# Altium schematic symbol library Symbol.SchLib: 41 symbols
Pins are listed as number, name and electrical type; pins without a type are passive.

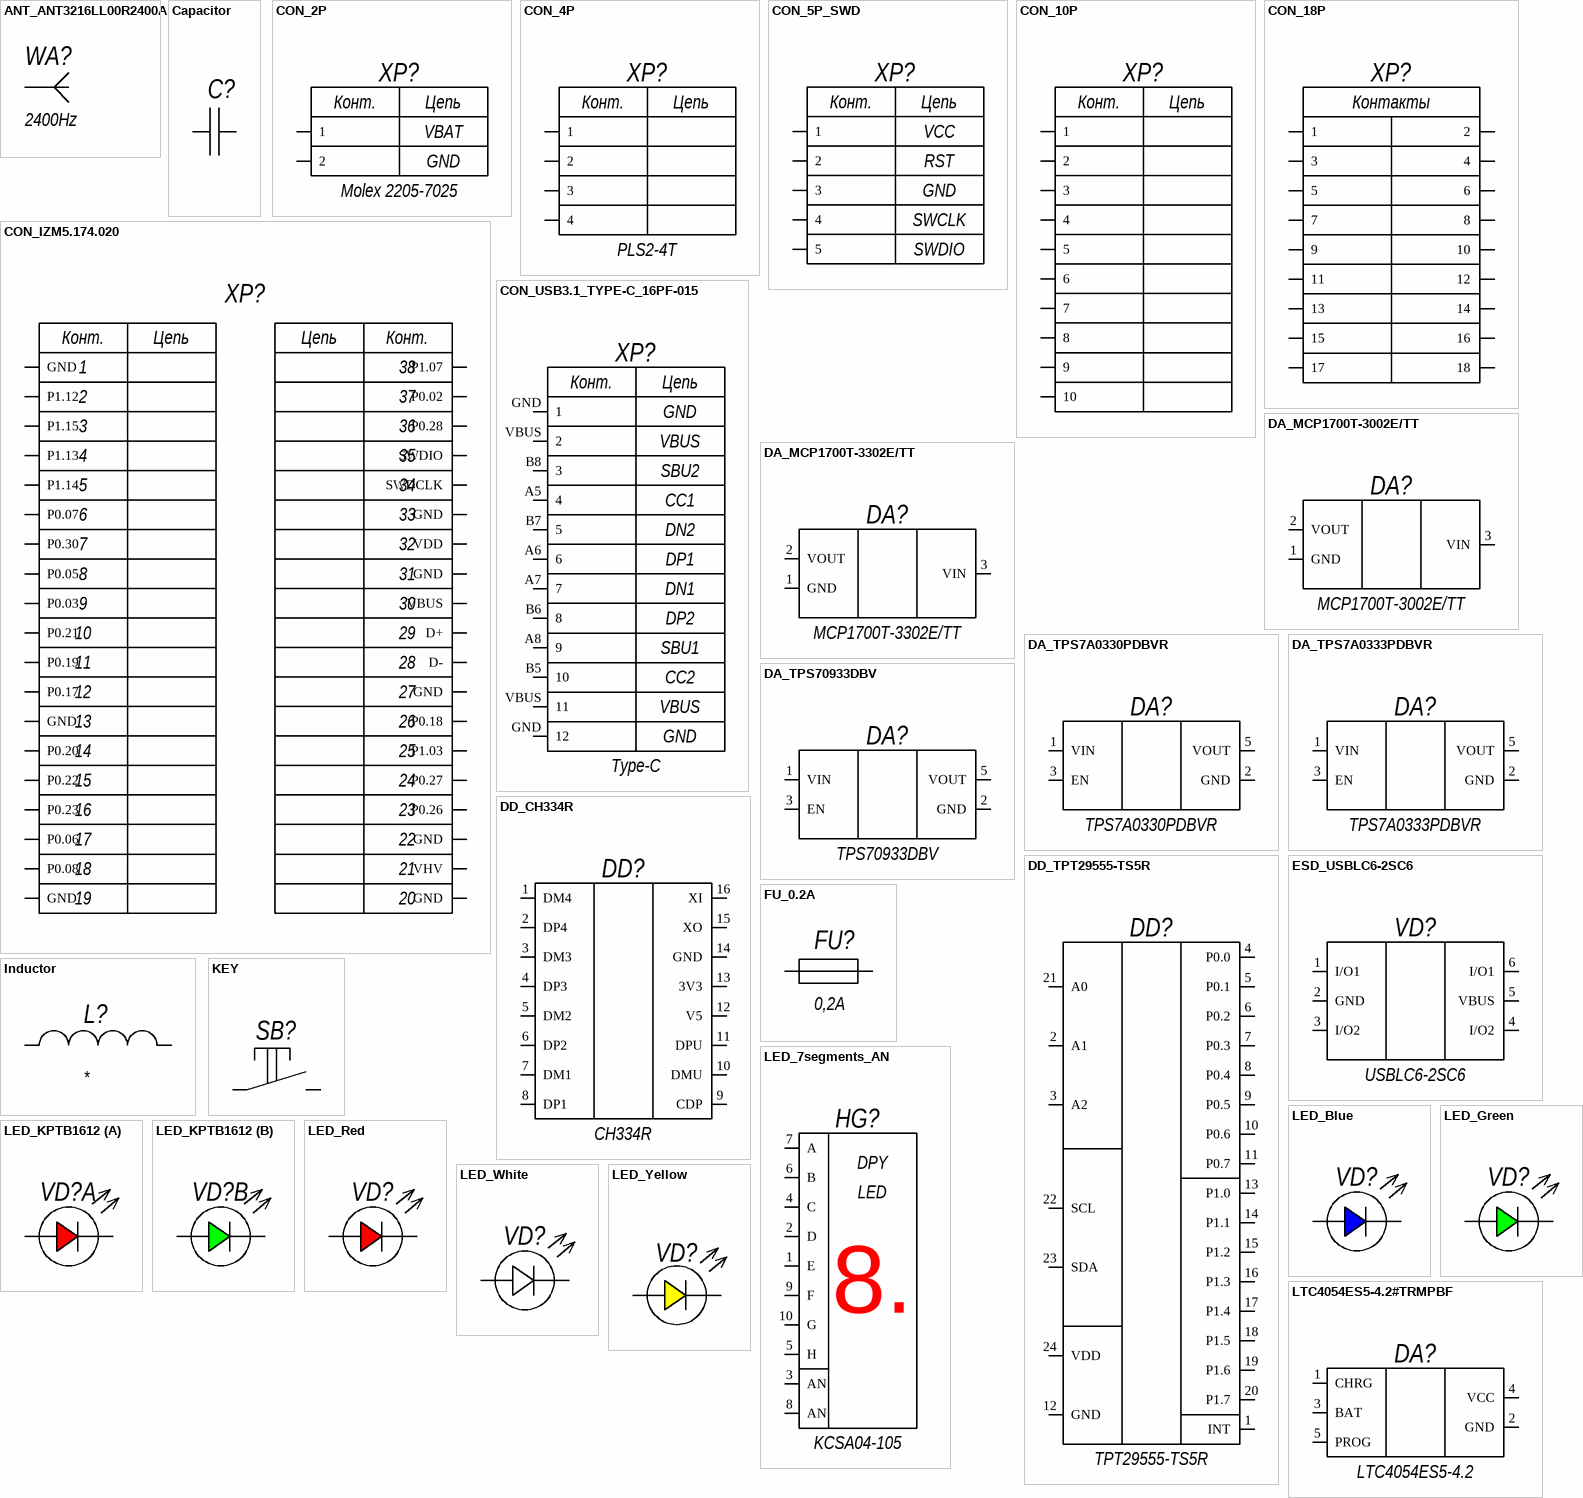
[diagram p0: symbols ANT_ANT3216LL00R2400A to LTC4054ES5-4.2#TRMPBF]

## ANT_ANT3216LL00R2400A
designator WA?, comment 2400Hz
Ceramic RF ANT 2.45GHZ CHIP SOLDER SMD
footprint ANT3216LL00R2400A
pins: 1

## Capacitor
designator C?
Керамический конденсатор
footprint C0603 (Chip Capacitor, 2-Leads, Body 1.60x0.80mm, IPC Medium Density)
footprint C0402 (Chip Capacitor, 2-Leads, Body 1.00x0.50mm, IPC Medium Density)
footprint C0805 (Chip Capacitor, 2-Leads, Body 2.00x1.25mm, IPC Medium Density)
pins: 1, 2

## CON_2P
designator XP?, comment Molex 2205-7025
SMT_Name: NO_SMT; GOST_Value: Molex 2205-7025
footprint 22-05-7025
pins: 1, 2
text: Конт.; Цепь; VBAT; GND

## CON_4P
designator XP?, comment PLS2-4T
GOST_Value: PLS2-4T SMD
footprint PLS2-4T
pins: 1, 2, 3, 4
text: Конт.; Цепь

## CON_5P_SWD
designator XP?, comment SWD  (value not drawn)
PLL1.27-5P; SMT_Name: NO_SMT; GOST_Value: PLL1.27-5
footprint PLL1.27-5
pins: 1, 2, 3, 4, 5
text: Конт.; Цепь; VCC; RST; GND; SWCLK; SWDIO

## CON_10P
designator XP?  (value not drawn)
PLS-10; GOST_Value: PLL1.27-5; SMT_Name: NO_SMT
footprint PLS-10
pins: 1, 2, 3, 4, 5, 6, 7, 8, 9, 10
text: Конт.; Цепь

## CON_18P
designator XP?  (value not drawn)
PLD2-18; SMT_Name: NO_SMT; GOST_Value: PLD2-18
footprint PLD2-18
pins: 1, 2, 3, 4, 5, 6, 7, 8, 9, 10, 11, 12, 13, 14, 15, 16, 17, 18
text: Контакты

## CON_IZM5.174.020
designator XP?
P75-B1; GOST_Value: ИЗМ5.174.020 * 38 POGOPIN P75-B1; SMT_Name: NO_SMT
footprint IZM5.174.020_POGO (P75-B1)
pins: 1 GND, 2 P1.12, 3 P1.15, 4 P1.13, 5 P1.14, 6 P0.07, 7 P0.30, 8 P0.05, 9 P0.03, 10 P0.21, 11 P0.19, 12 P0.17, 13 GND, 14 P0.20, 15 P0.22, 16 P0.23, 17 P0.06, 18 P0.08, 19 GND, 20 GND, 21 VHV, 22 GND, 23 P0.26, 24 P0.27, 25 P1.03, 26 P0.18, 27 GND, 28 D-, 29 D+, 30 VBUS, 31 GND, 32 VDD, 33 GND, 34 SWDCLK, 35 SWDIO, 36 P0.28, 37 P0.02, 38 P1.07
text: Конт.; Цепь

## CON_USB3.1_TYPE-C_16PF-015
designator XP?, comment Type-C
USB3.1 TYPE-C 16PF-015; GOST_Value: USB3.1 TYPE-C 16PF-015; SMT_NAME: 16PF-015
footprint 16PF-015 (https://sl.aliexpress.ru/p?key=01Sq3dR / USB3.1 TYPE-C 16PF-015, Разъем USB 3.1 тип С, 16 контактов / https://www.chipdip.ru/product/usb3.1-type-c-16pf-015-razem-usb-3.1-tip-s-16-ruichi-9000888045)
pins: A5 4, A6 6, A7 7, A8 9, B5 10, B6 8, B7 5, B8 3, GND 1, GND 12, VBUS 2, VBUS 11
text: Конт.; Цепь; SBU2; CC1; DN2; DP1; DN1; DP2; SBU1; CC2

## DA_MCP1700T-3002E/TT
designator DA?, comment MCP1700T-3002E/TT
LDO 3V0 / Input voltage range: 2.3 V to 6.0 V; GOST_Value: MCP1700T-3002E/TT; SMT_Name: MCP1700T-3002E/TT
footprint SOT23 (SOT23, 3-Leads, Body 2.90x2.45mm, Pitch 0.95mm, IPC Medium Density)
pins: 1 GND, 2 VOUT, 3 VIN

## DA_MCP1700T-3302E/TT
designator DA?, comment MCP1700T-3302E/TT
LDO 3V3 / Input voltage range: 2.3 V to 6.0 V; GOST_Value: MCP1700T-3302E/TT; SMT_Name: MCP1700T-3302E/TT
footprint SOT23 (SOT23, 3-Leads, Body 2.90x2.45mm, Pitch 0.95mm, IPC Medium Density)
pins: 1 GND, 2 VOUT, 3 VIN

## DA_TPS7A0330PDBVR
designator DA?, comment TPS7A0330PDBVR
LDO 3V0 / Input voltage range: 1.5 V to 6.0 V; GOST_Value: TPS7A0330PDBVR; SMT_Name: TPS7A0330PDBVR
footprint SOT23-5 (SOT23, 5-Leads, Body 2.90x2.80mm, Pitch 0.95mm, IPC Medium Density)
pins: 1 VIN, 2 GND, 3 EN, 5 VOUT

## DA_TPS7A0333PDBVR
designator DA?, comment TPS7A0333PDBVR
LDO 3V3 / Input voltage range: 1.5 V to 6.0 V; GOST_Value: TPS7A0333PDBVR; SMT_Name: TPS7A0333PDBVR
footprint SOT23-5 (SOT23, 5-Leads, Body 2.90x2.80mm, Pitch 0.95mm, IPC Medium Density)
pins: 1 VIN, 2 GND, 3 EN, 5 VOUT

## DA_TPS70933DBV
designator DA?, comment TPS70933DBV
LDO 3V3 / Input voltage range: 2.7 V to 30 V; GOST_Value: TPS70933DBV; SMT_Name: TPS70933DBV
footprint SOT23-5 (SOT23, 5-Leads, Body 2.90x2.80mm, Pitch 0.95mm, IPC Medium Density)
pins: 1 VIN, 2 GND, 3 EN, 5 VOUT

## DD_CH334R
designator DD?, comment CH334R
Интерфейс USB2.0 4-х портовый QSOP-16; GOST_Value: CH334R; SMT_Name: CH334R
footprint QSOP-16
pins: 1 DM4, 2 DP4, 3 DM3, 4 DP3, 5 DM2, 6 DP2, 7 DM1, 8 DP1, 9 CDP, 10 DMU, 11 DPU, 12 V5, 13 3V3, 14 GND, 15 XO, 16 XI

## DD_TPT29555-TS5R
designator DD?, comment TPT29555-TS5R
Расширитель входа-выхода 16-бит с прерыванием шина I2C питание 1.65....5.5В; GOST_Value: TPT29555-TS5R; SMT_Name: TPT29555-TS5R
pins: 1 INT, 2 A1, 3 A2, 4 P0.0, 5 P0.1, 6 P0.2, 7 P0.3, 8 P0.4, 9 P0.5, 10 P0.6, 11 P0.7, 12 GND, 13 P1.0, 14 P1.1, 15 P1.2, 16 P1.3, 17 P1.4, 18 P1.5, 19 P1.6, 20 P1.7, 21 A0, 22 SCL, 23 SDA, 24 VDD

## ESD_USBLC6-2SC6
designator VD?, comment USBLC6-2SC6
Защита интерфейса USB от электростатических разрядов; GOST_Value: USBLC6-2SC6; SMT_Name: USBLC6-2SC6
footprint SOT23-6L
pins: 1 I/O1, 2 GND, 3 I/O2, 4 I/O2, 5 VBUS, 6 I/O1

## FU_0.2A
designator FU?, comment 0,2A
footprint FU1206 (MF-NSMF)
pins: 1, 2

## Inductor
designator L?
footprint L0603 (Chip Inductor, 2-Leads, Body 1.60x0.80mm, IPC Medium Density)
footprint L0402 (Chip Inductor, 2-Leads, Body 1.00x0.50mm, IPC Medium Density)
pins: 1, 2

## KEY
designator SB?  (value not drawn)
footprint KEY6*6*5
footprint KEY3*4*2
pins: 1, 2

## LED_7segments_AN
designator HG?, comment KCSA04-105
GOST_Value: Knightbright KCSA04-105; SMT_Name: KCSA04-105
footprint KCSA04-105 (2)
pins: 1 E, 2 D, 3 AN, 4 C, 5 H, 6 B, 7 A, 8 AN, 9 F, 10 G
text: DPY; LED; 8.

## LED_Blue
designator VD?
footprint LED3224
footprint LED0603
pins: 1 Catode, 2 Anode

## LED_Green
designator VD?
footprint LED3224
footprint LED0603
pins: 1 Catode, 2 Anode

## LED_KPTB1612
designator VD?, comment KPTB-1612SURKCGKC  (value not drawn)
GOST_Value: KPTB-1612SURKCGKC; SMT_Name: KPTB-1612SURKCGKC
footprint KPTB1612
part A pins: 1 Anode, 2 Catode
part B pins: 3 Anode, 4 Catode

## LED_Red
designator VD?
footprint LED3224
footprint LED0603
pins: 1 Catode, 2 Anode

## LED_White
designator VD?
footprint LED3224
footprint LED0603
pins: 1 Catode, 2 Anode

## LED_Yellow
designator VD?
footprint LED3224
footprint LED0603
pins: 1 Catode, 2 Anode

## LTC4054ES5-4.2#TRMPBF
designator DA?, comment LTC4054ES5-4.2
GOST_Value: LTC4054ES5-4.2#TRMPBF; SMT_Name: LTC4054ES5
footprint SOT23-5 (SOT23, 5-Leads, Body 2.90x2.80mm, Pitch 0.95mm, IPC Medium Density)
pins: 1 CHRG, 2 GND, 3 BAT, 4 VCC, 5 PROG

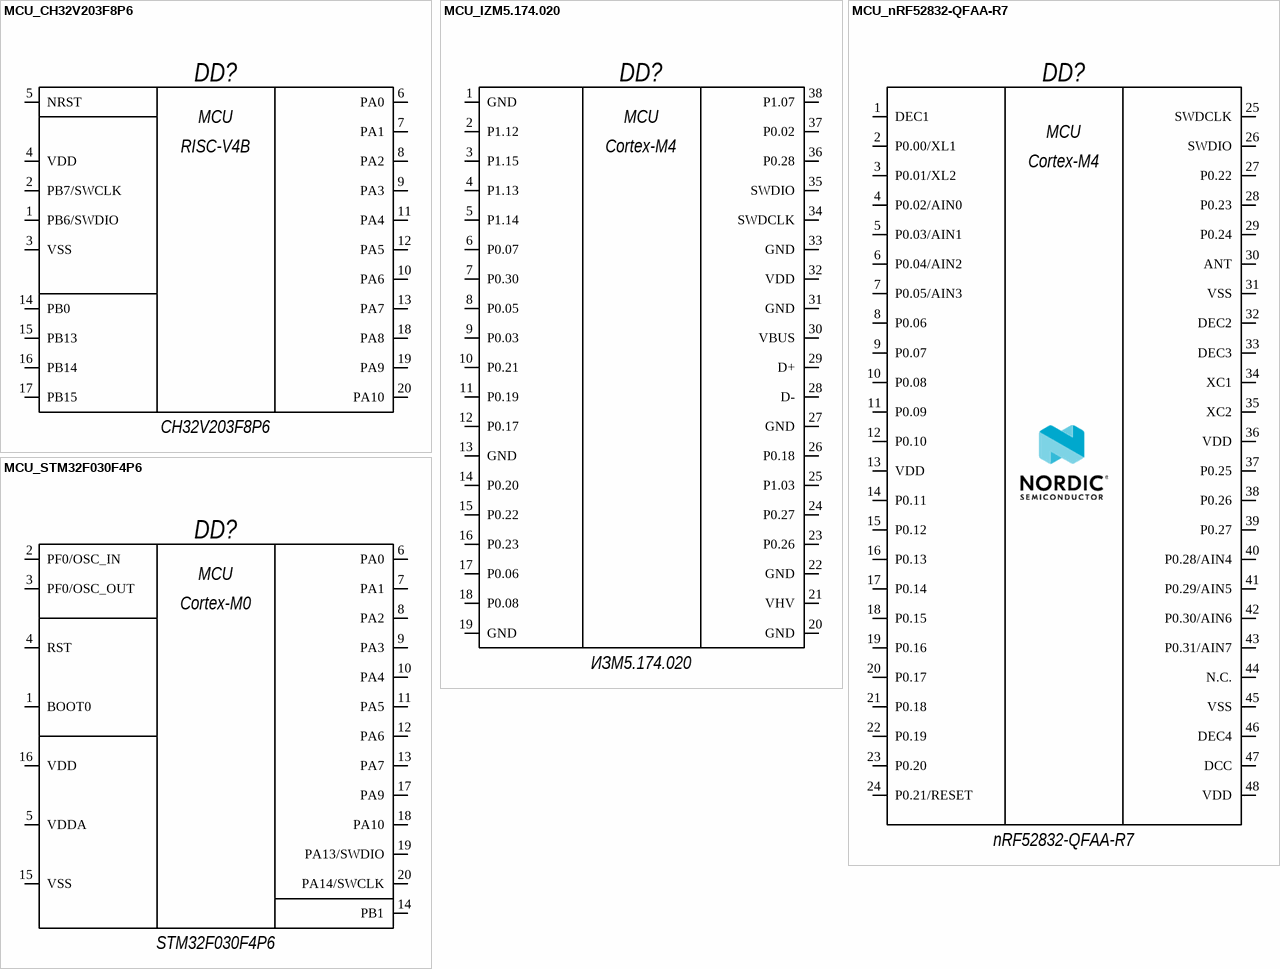
[diagram p1: symbols MCU_CH32V203F8P6 to MCU_STM32F030F4P6]

## MCU_CH32V203F8P6
designator DD?, comment CH32V203F8P6
GOST_Value: CH32V203F8P6; SMT_Name: CH32V203F8P6
footprint TSSOP-20 (TSOP, 20-Leads, Body 6.50x4.40mm, Pitch 0.65mm, IPC Medium Density)
pins: 1 PB6/SWDIO, 2 PB7/SWCLK, 3 VSS, 4 VDD, 5 NRST, 6 PA0, 7 PA1, 8 PA2, 9 PA3, 10 PA6, 11 PA4, 12 PA5, 13 PA7, 14 PB0, 15 PB13, 16 PB14, 17 PB15, 18 PA8, 19 PA9, 20 PA10
text: MCU; RISC-V4B

## MCU_IZM5.174.020
designator DD?, comment ИЗМ5.174.020
SMT_Name: IZM5.174.020; GOST_Value: ИЗМ5.174.020
footprint IZM5.174.020
pins: 1 GND, 2 P1.12, 3 P1.15, 4 P1.13, 5 P1.14, 6 P0.07, 7 P0.30, 8 P0.05, 9 P0.03, 10 P0.21, 11 P0.19, 12 P0.17, 13 GND, 14 P0.20, 15 P0.22, 16 P0.23, 17 P0.06, 18 P0.08, 19 GND, 20 GND, 21 VHV, 22 GND, 23 P0.26, 24 P0.27, 25 P1.03, 26 P0.18, 27 GND, 28 D-, 29 D+, 30 VBUS, 31 GND, 32 VDD, 33 GND, 34 SWDCLK, 35 SWDIO, 36 P0.28, 37 P0.02, 38 P1.07
text: MCU; Cortex-M4

## MCU_nRF52832-QFAA-R7
designator DD?, comment nRF52832-QFAA-R7
GOST_Value: STM32F030F4P6; SMT_Name: STM32F030F4P6
footprint QFN48
footprint QFN48_LASER
pins: 1 DEC1, 2 P0.00/XL1, 3 P0.01/XL2, 4 P0.02/AIN0, 5 P0.03/AIN1, 6 P0.04/AIN2, 7 P0.05/AIN3, 8 P0.06, 9 P0.07, 10 P0.08, 11 P0.09, 12 P0.10, 13 VDD, 14 P0.11, 15 P0.12, 16 P0.13, 17 P0.14, 18 P0.15, 19 P0.16, 20 P0.17, 21 P0.18, 22 P0.19, 23 P0.20, 24 P0.21/RESET, 25 SWDCLK, 26 SWDIO, 27 P0.22, 28 P0.23, 29 P0.24, 30 ANT, 31 VSS, 32 DEC2, 33 DEC3, 34 XC1, 35 XC2, 36 VDD, 37 P0.25, 38 P0.26, 39 P0.27, 40 P0.28/AIN4, 41 P0.29/AIN5, 42 P0.30/AIN6, 43 P0.31/AIN7, 44 N.C., 45 VSS, 46 DEC4, 47 DCC, 48 VDD
text: MCU; Cortex-M4

## MCU_STM32F030F4P6
designator DD?, comment STM32F030F4P6
GOST_Value: STM32F030F4P6; SMT_Name: STM32F030F4P6
footprint TSSOP-20 (TSOP, 20-Leads, Body 6.50x4.40mm, Pitch 0.65mm, IPC Medium Density)
pins: 1 BOOT0, 2 PF0/OSC_IN, 3 PF0/OSC_OUT, 4 RST, 5 VDDA, 6 PA0, 7 PA1, 8 PA2, 9 PA3, 10 PA4, 11 PA5, 12 PA6, 13 PA7, 14 PB1, 15 VSS, 16 VDD, 17 PA9, 18 PA10, 19 PA13/SWDIO, 20 PA14/SWCLK
text: MCU; Cortex-M0

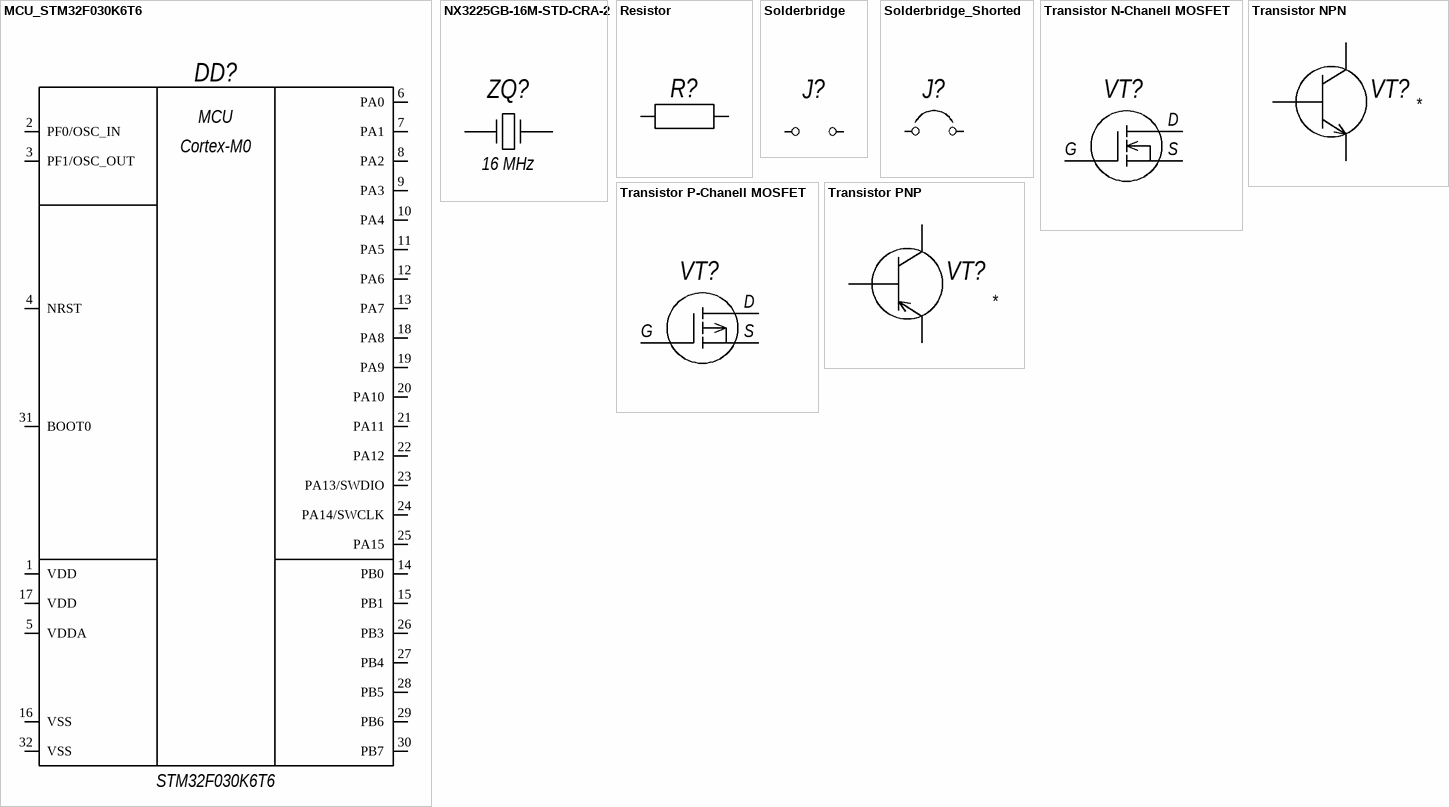
[diagram p2: symbols MCU_STM32F030K6T6 to Transistor PNP]

## MCU_STM32F030K6T6
designator DD?, comment STM32F030K6T6
GOST_Value: STM32F030K6T6; SMT_Name: STM32F030K6T6
footprint LQFP-32 (LQFP, 32-Leads, Body 7.00x7.00mm, Pitch 0.80mm, IPC Medium Density)
pins: 1 VDD, 2 PF0/OSC_IN, 3 PF1/OSC_OUT, 4 NRST, 5 VDDA, 6 PA0, 7 PA1, 8 PA2, 9 PA3, 10 PA4, 11 PA5, 12 PA6, 13 PA7, 14 PB0, 15 PB1, 16 VSS, 17 VDD, 18 PA8, 19 PA9, 20 PA10, 21 PA11, 22 PA12, 23 PA13/SWDIO, 24 PA14/SWCLK, 25 PA15, 26 PB3, 27 PB4, 28 PB5, 29 PB6, 30 PB7, 31 BOOT0, 32 VSS
text: MCU; Cortex-M0

## NX3225GB-16M-STD-CRA-2
designator ZQ?, comment 16 MHz
16 MHz 3.2*2.5; GOST_Value: NX3225GB-16M-STD-CRA-2; SMT_Name: 16MHz
footprint NX3225GB
pins: 1, 2

## Resistor
designator R?
Резистор
footprint R0603 (Chip Resistor, 2-Leads, Body 1.60x0.80mm, IPC Medium Density)
footprint R0402 (Chip Resistor, 2-Leads, Body 1.00x0.50mm, IPC Medium Density)
footprint R0805 (Chip Resistor, 2-Leads, Body 2.00x1.25mm, IPC Medium Density)
pins: 1, 2

## Solderbridge
designator J?
SMD-перемычка разомкнутая
footprint Solderbridge
pins: 1  2, 2

## Solderbridge_Shorted
designator J?
SMD-перемычка замкнутая
footprint Solderbridge_Shorted
pins: 1  2, 2

## Transistor N-Chanell MOSFET
designator VT?
footprint SOT23 (SOT23, 3-Leads, Body 2.90x2.45mm, Pitch 0.95mm, IPC Medium Density)
pins: 1 G, 2 S, 3 D

## Transistor NPN
designator VT?
GOST_Value: *
footprint SOT23 (SOT23, 3-Leads, Body 2.90x2.45mm, Pitch 0.95mm, IPC Medium Density)
pins: 1 B "Base", 2 E "Emmiter", 3 C "Collector"

## Transistor P-Chanell MOSFET
designator VT?
footprint SOT23 (SOT23, 3-Leads, Body 2.90x2.45mm, Pitch 0.95mm, IPC Medium Density)
pins: 1 G, 2 S, 3 D

## Transistor PNP
designator VT?
GOST_Value: *
footprint SOT23 (SOT23, 3-Leads, Body 2.90x2.45mm, Pitch 0.95mm, IPC Medium Density)
pins: 1 B "Base", 2 E "Emmiter", 3 C "Collector"